# Altium schematic symbol library MCU_ST_STM32L0.SchLib: 245 symbols (part 5 of 5)
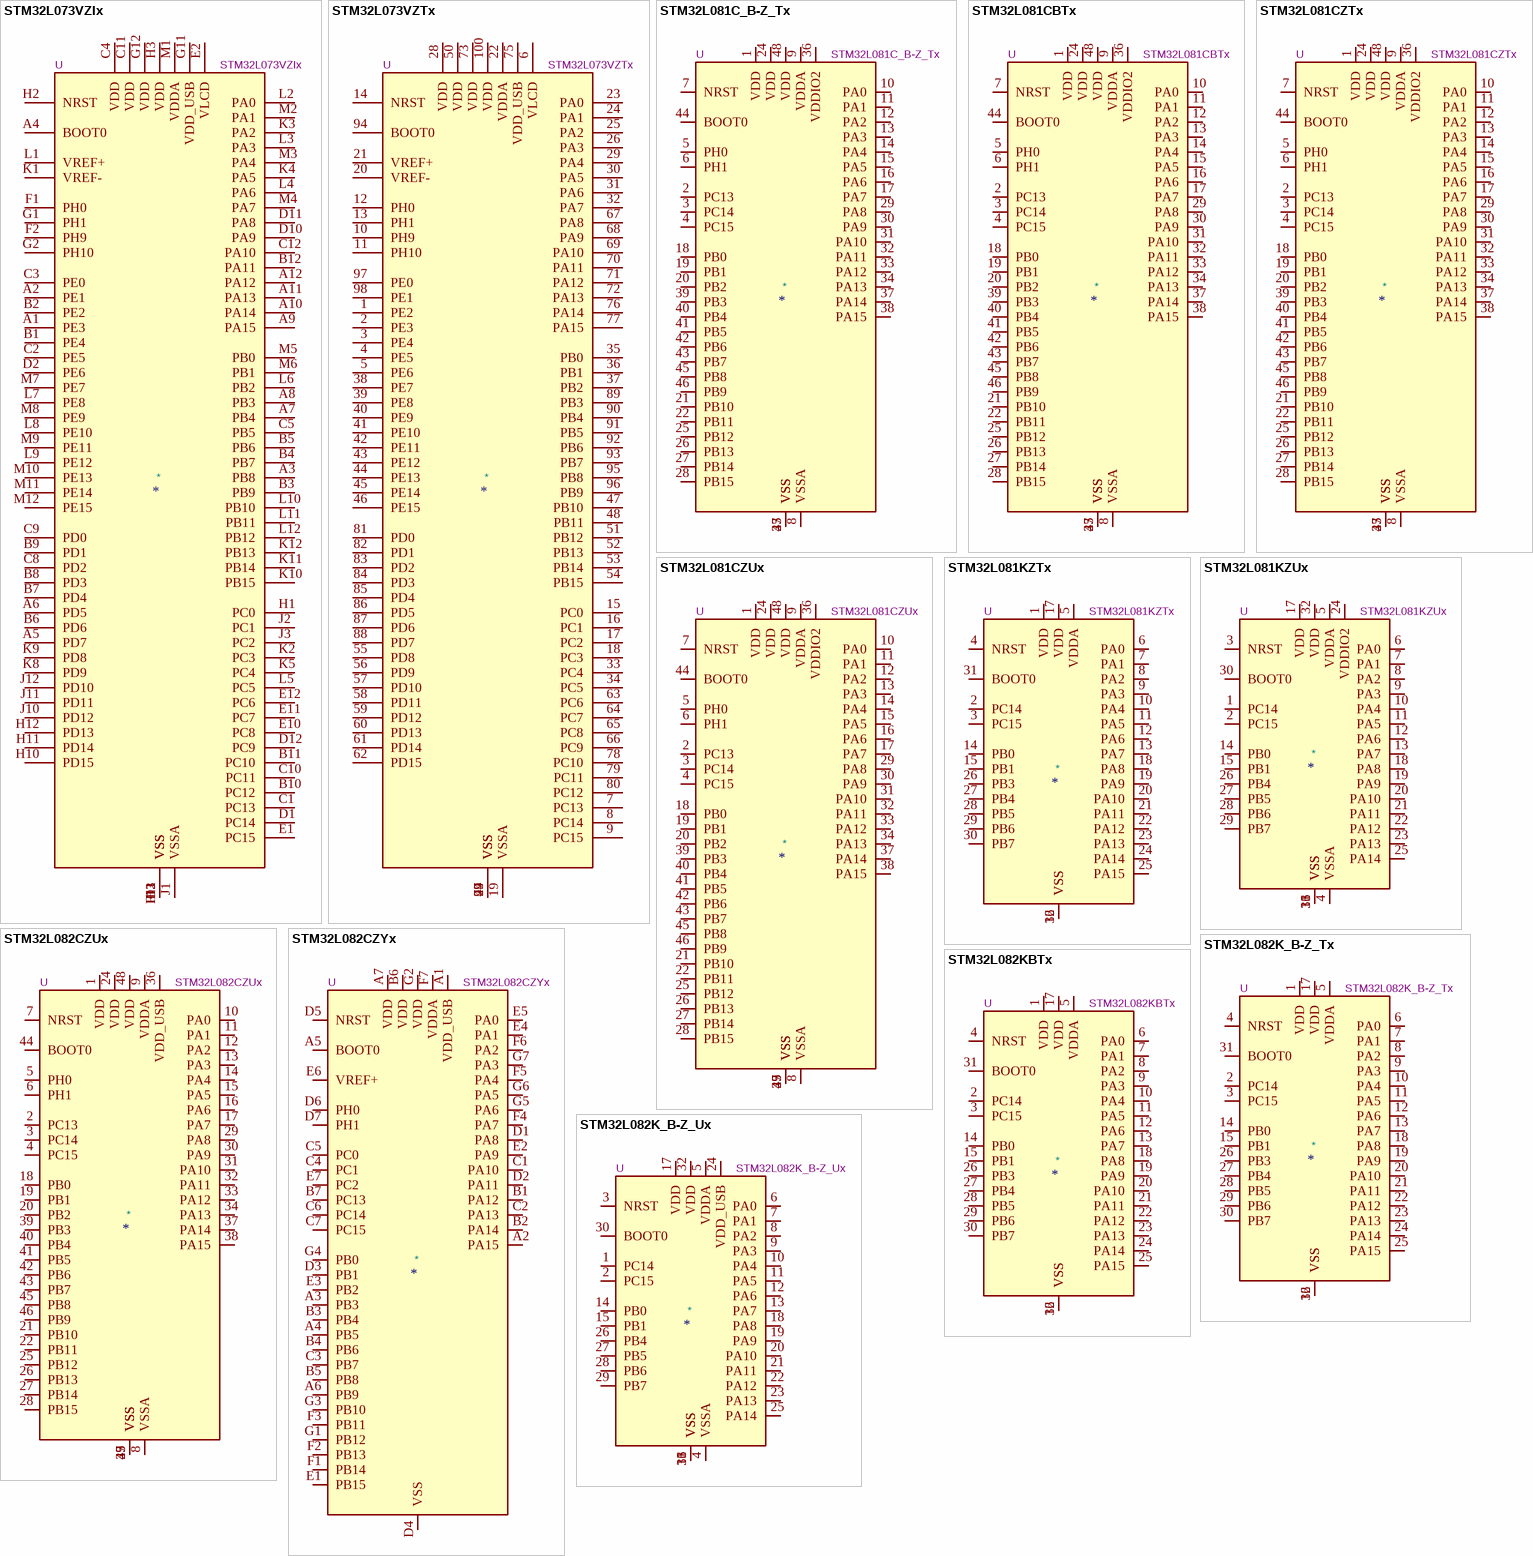
[diagram p26: symbols STM32L073VZIx to STM32L082KBTx]

## STM32L082CZYx
designator *  value STM32L082CZYx  Reference: U
STMicroelectronics Arm Cortex-M0+ MCU, 192KB flash, 20KB RAM, 32 MHz, 1.65-3.6V, 40 GPIO, WLCSP49; ki_keywords: Arm Cortex-M0+ STM32L0 STM32L0x2; ki_fp_filters: ST*WLCSP*Die447*; Footprint: Package_CSP:ST_WLCSP-49_Die447; Datasheet: https://www.st.com/resource/en/datasheet/stm32l082cz.pdf; Description_: STMicroelectronics Arm Cortex-M0+ MCU, 192KB flash, 20KB RAM, 32 MHz, 1.65-3.6V, 40 GPIO, WLCSP49
pins: A1 VDD_USB, A2 PA15, A3 PB3, A4 PB5, A5 BOOT0, A6 PB9, A7 VDD, B1 PA12, B2 PA14, B3 PB4, B4 PB6, B5 PB8, B6 VDD, B7 PC13, C1 PA10, C2 PA13, C3 PB7, C4 PC1, C5 PC0, C6 PC14, C7 PC15, D1 PA8, D2 PA11, D3 PB1, D4 VSS, D5 NRST, D6 PH0, D7 PH1, E1 PB15, E2 PA9, E3 PB2, E4 PA1, E5 PA0, E6 VREF+, E7 PC2, F1 PB14, F2 PB13, F3 PB11, F4 PA7, F5 PA4, F6 PA2, F7 VDDA, G1 PB12, G2 VDD, G3 PB10, G4 PB0, G5 PA6, G6 PA5, G7 PA3

## STM32L082K_B-Z_Tx
designator *  value STM32L082K_B-Z_Tx  Reference: U
STMicroelectronics Arm Cortex-M0+ MCU, 128-192KB flash, 20KB RAM, 32 MHz, 1.65-3.6V, 25 GPIO, LQFP32; ki_keywords: Arm Cortex-M0+ STM32L0 STM32L0x2; ki_fp_filters: LQFP*7x7mm*P0.8mm*; Footprint: Package_QFP:LQFP-32_7x7mm_P0.8mm; Datasheet: https://www.st.com/resource/en/datasheet/stm32l082kb.pdf; Description_: STMicroelectronics Arm Cortex-M0+ MCU, 128-192KB flash, 20KB RAM, 32 MHz, 1.65-3.6V, 25 GPIO, LQFP32
pins: 1 VDD, 2 PC14, 3 PC15, 4 NRST, 5 VDDA, 6 PA0, 7 PA1, 8 PA2, 9 PA3, 10 PA4, 11 PA5, 12 PA6, 13 PA7, 14 PB0, 15 PB1, 16 VSS, 17 VDD, 18 PA8, 19 PA9, 20 PA10, 21 PA11, 22 PA12, 23 PA13, 24 PA14, 25 PA15, 26 PB3, 27 PB4, 28 PB5, 29 PB6, 30 PB7, 31 BOOT0, 32 VSS

## STM32L082K_B-Z_Ux
designator *  value STM32L082K_B-Z_Ux  Reference: U
STMicroelectronics Arm Cortex-M0+ MCU, 128-192KB flash, 20KB RAM, 32 MHz, 1.65-3.6V, 23 GPIO, UFQFPN32; ki_keywords: Arm Cortex-M0+ STM32L0 STM32L0x2; ki_fp_filters: QFN*1EP*5x5mm*P0.5mm*; Footprint: Package_DFN_QFN:QFN-32-1EP_5x5mm_P0.5mm_EP3.45x3.45mm; Datasheet: https://www.st.com/resource/en/datasheet/stm32l082kb.pdf; Description_: STMicroelectronics Arm Cortex-M0+ MCU, 128-192KB flash, 20KB RAM, 32 MHz, 1.65-3.6V, 23 GPIO, UFQFPN32
pins: 1 PC14, 2 PC15, 3 NRST, 4 VSSA, 5 VDDA, 6 PA0, 7 PA1, 8 PA2, 9 PA3, 10 PA4, 11 PA5, 12 PA6, 13 PA7, 14 PB0, 15 PB1, 16 VSS, 17 VDD, 18 PA8, 19 PA9, 20 PA10, 21 PA11, 22 PA12, 23 PA13, 24 VDD_USB, 25 PA14, 26 PB4, 27 PB5, 28 PB6, 29 PB7, 30 BOOT0, 31 VSS, 32 VDD, 33 VSS

## STM32L082KBTx
designator *  value STM32L082KBTx  Reference: U
STMicroelectronics Arm Cortex-M0+ MCU, 128KB flash, 20KB RAM, 32 MHz, 1.65-3.6V, 25 GPIO, LQFP32; ki_keywords: Arm Cortex-M0+ STM32L0 STM32L0x2; ki_fp_filters: LQFP*7x7mm*P0.8mm*; Footprint: Package_QFP:LQFP-32_7x7mm_P0.8mm; Datasheet: https://www.st.com/resource/en/datasheet/stm32l082kb.pdf; Description_: STMicroelectronics Arm Cortex-M0+ MCU, 128KB flash, 20KB RAM, 32 MHz, 1.65-3.6V, 25 GPIO, LQFP32
pins: 1 VDD, 2 PC14, 3 PC15, 4 NRST, 5 VDDA, 6 PA0, 7 PA1, 8 PA2, 9 PA3, 10 PA4, 11 PA5, 12 PA6, 13 PA7, 14 PB0, 15 PB1, 16 VSS, 17 VDD, 18 PA8, 19 PA9, 20 PA10, 21 PA11, 22 PA12, 23 PA13, 24 PA14, 25 PA15, 26 PB3, 27 PB4, 28 PB5, 29 PB6, 30 PB7, 31 BOOT0, 32 VSS

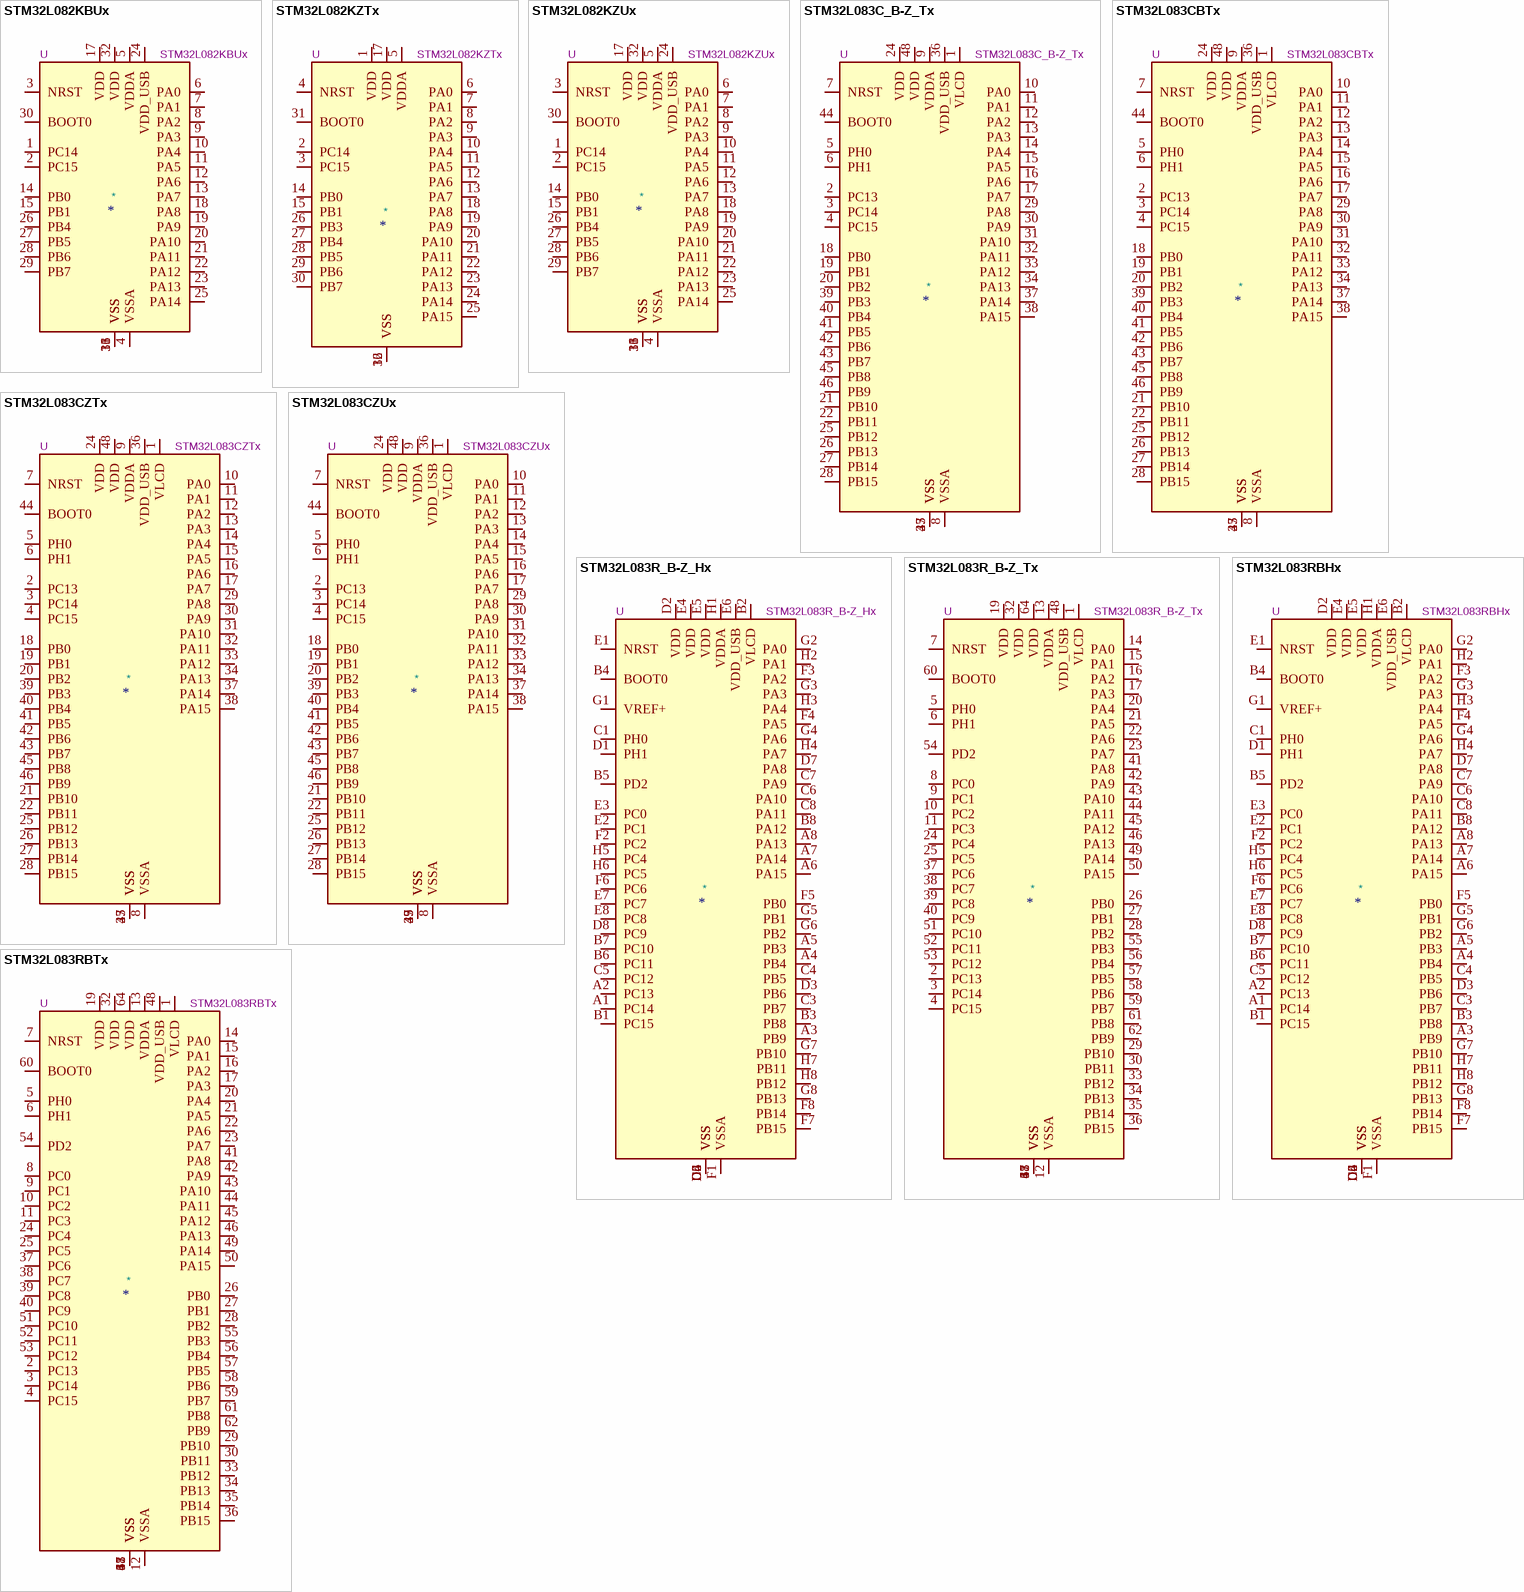
[diagram p19: symbols STM32L082KBUx to STM32L083RBTx]

## STM32L082KBUx
designator *  value STM32L082KBUx  Reference: U
STMicroelectronics Arm Cortex-M0+ MCU, 128KB flash, 20KB RAM, 32 MHz, 1.65-3.6V, 23 GPIO, UFQFPN32; ki_keywords: Arm Cortex-M0+ STM32L0 STM32L0x2; ki_fp_filters: QFN*1EP*5x5mm*P0.5mm*; Footprint: Package_DFN_QFN:QFN-32-1EP_5x5mm_P0.5mm_EP3.45x3.45mm; Datasheet: https://www.st.com/resource/en/datasheet/stm32l082kb.pdf; Description_: STMicroelectronics Arm Cortex-M0+ MCU, 128KB flash, 20KB RAM, 32 MHz, 1.65-3.6V, 23 GPIO, UFQFPN32
pins: 1 PC14, 2 PC15, 3 NRST, 4 VSSA, 5 VDDA, 6 PA0, 7 PA1, 8 PA2, 9 PA3, 10 PA4, 11 PA5, 12 PA6, 13 PA7, 14 PB0, 15 PB1, 16 VSS, 17 VDD, 18 PA8, 19 PA9, 20 PA10, 21 PA11, 22 PA12, 23 PA13, 24 VDD_USB, 25 PA14, 26 PB4, 27 PB5, 28 PB6, 29 PB7, 30 BOOT0, 31 VSS, 32 VDD, 33 VSS

## STM32L082KZTx
designator *  value STM32L082KZTx  Reference: U
STMicroelectronics Arm Cortex-M0+ MCU, 192KB flash, 20KB RAM, 32 MHz, 1.65-3.6V, 25 GPIO, LQFP32; ki_keywords: Arm Cortex-M0+ STM32L0 STM32L0x2; ki_fp_filters: LQFP*7x7mm*P0.8mm*; Footprint: Package_QFP:LQFP-32_7x7mm_P0.8mm; Datasheet: https://www.st.com/resource/en/datasheet/stm32l082kz.pdf; Description_: STMicroelectronics Arm Cortex-M0+ MCU, 192KB flash, 20KB RAM, 32 MHz, 1.65-3.6V, 25 GPIO, LQFP32
pins: 1 VDD, 2 PC14, 3 PC15, 4 NRST, 5 VDDA, 6 PA0, 7 PA1, 8 PA2, 9 PA3, 10 PA4, 11 PA5, 12 PA6, 13 PA7, 14 PB0, 15 PB1, 16 VSS, 17 VDD, 18 PA8, 19 PA9, 20 PA10, 21 PA11, 22 PA12, 23 PA13, 24 PA14, 25 PA15, 26 PB3, 27 PB4, 28 PB5, 29 PB6, 30 PB7, 31 BOOT0, 32 VSS

## STM32L082KZUx
designator *  value STM32L082KZUx  Reference: U
STMicroelectronics Arm Cortex-M0+ MCU, 192KB flash, 20KB RAM, 32 MHz, 1.65-3.6V, 23 GPIO, UFQFPN32; ki_keywords: Arm Cortex-M0+ STM32L0 STM32L0x2; ki_fp_filters: QFN*1EP*5x5mm*P0.5mm*; Footprint: Package_DFN_QFN:QFN-32-1EP_5x5mm_P0.5mm_EP3.45x3.45mm; Datasheet: https://www.st.com/resource/en/datasheet/stm32l082kz.pdf; Description_: STMicroelectronics Arm Cortex-M0+ MCU, 192KB flash, 20KB RAM, 32 MHz, 1.65-3.6V, 23 GPIO, UFQFPN32
pins: 1 PC14, 2 PC15, 3 NRST, 4 VSSA, 5 VDDA, 6 PA0, 7 PA1, 8 PA2, 9 PA3, 10 PA4, 11 PA5, 12 PA6, 13 PA7, 14 PB0, 15 PB1, 16 VSS, 17 VDD, 18 PA8, 19 PA9, 20 PA10, 21 PA11, 22 PA12, 23 PA13, 24 VDD_USB, 25 PA14, 26 PB4, 27 PB5, 28 PB6, 29 PB7, 30 BOOT0, 31 VSS, 32 VDD, 33 VSS

## STM32L083C_B-Z_Tx
designator *  value STM32L083C_B-Z_Tx  Reference: U
STMicroelectronics Arm Cortex-M0+ MCU, 128-192KB flash, 20KB RAM, 32 MHz, 1.65-3.6V, 37 GPIO, LQFP48; ki_keywords: Arm Cortex-M0+ STM32L0 STM32L0x3; ki_fp_filters: LQFP*7x7mm*P0.5mm*; Footprint: Package_QFP:LQFP-48_7x7mm_P0.5mm; Datasheet: https://www.st.com/resource/en/datasheet/stm32l083cb.pdf; Description_: STMicroelectronics Arm Cortex-M0+ MCU, 128-192KB flash, 20KB RAM, 32 MHz, 1.65-3.6V, 37 GPIO, LQFP48
pins: 1 VLCD, 2 PC13, 3 PC14, 4 PC15, 5 PH0, 6 PH1, 7 NRST, 8 VSSA, 9 VDDA, 10 PA0, 11 PA1, 12 PA2, 13 PA3, 14 PA4, 15 PA5, 16 PA6, 17 PA7, 18 PB0, 19 PB1, 20 PB2, 21 PB10, 22 PB11, 23 VSS, 24 VDD, 25 PB12, 26 PB13, 27 PB14, 28 PB15, 29 PA8, 30 PA9, 31 PA10, 32 PA11, 33 PA12, 34 PA13, 35 VSS, 36 VDD_USB, 37 PA14, 38 PA15, 39 PB3, 40 PB4, 41 PB5, 42 PB6, 43 PB7, 44 BOOT0, 45 PB8, 46 PB9, 47 VSS, 48 VDD

## STM32L083CBTx
designator *  value STM32L083CBTx  Reference: U
STMicroelectronics Arm Cortex-M0+ MCU, 128KB flash, 20KB RAM, 32 MHz, 1.65-3.6V, 37 GPIO, LQFP48; ki_keywords: Arm Cortex-M0+ STM32L0 STM32L0x3; ki_fp_filters: LQFP*7x7mm*P0.5mm*; Footprint: Package_QFP:LQFP-48_7x7mm_P0.5mm; Datasheet: https://www.st.com/resource/en/datasheet/stm32l083cb.pdf; Description_: STMicroelectronics Arm Cortex-M0+ MCU, 128KB flash, 20KB RAM, 32 MHz, 1.65-3.6V, 37 GPIO, LQFP48
pins: 1 VLCD, 2 PC13, 3 PC14, 4 PC15, 5 PH0, 6 PH1, 7 NRST, 8 VSSA, 9 VDDA, 10 PA0, 11 PA1, 12 PA2, 13 PA3, 14 PA4, 15 PA5, 16 PA6, 17 PA7, 18 PB0, 19 PB1, 20 PB2, 21 PB10, 22 PB11, 23 VSS, 24 VDD, 25 PB12, 26 PB13, 27 PB14, 28 PB15, 29 PA8, 30 PA9, 31 PA10, 32 PA11, 33 PA12, 34 PA13, 35 VSS, 36 VDD_USB, 37 PA14, 38 PA15, 39 PB3, 40 PB4, 41 PB5, 42 PB6, 43 PB7, 44 BOOT0, 45 PB8, 46 PB9, 47 VSS, 48 VDD

## STM32L083CZTx
designator *  value STM32L083CZTx  Reference: U
STMicroelectronics Arm Cortex-M0+ MCU, 192KB flash, 20KB RAM, 32 MHz, 1.65-3.6V, 37 GPIO, LQFP48; ki_keywords: Arm Cortex-M0+ STM32L0 STM32L0x3; ki_fp_filters: LQFP*7x7mm*P0.5mm*; Footprint: Package_QFP:LQFP-48_7x7mm_P0.5mm; Datasheet: https://www.st.com/resource/en/datasheet/stm32l083cz.pdf; Description_: STMicroelectronics Arm Cortex-M0+ MCU, 192KB flash, 20KB RAM, 32 MHz, 1.65-3.6V, 37 GPIO, LQFP48
pins: 1 VLCD, 2 PC13, 3 PC14, 4 PC15, 5 PH0, 6 PH1, 7 NRST, 8 VSSA, 9 VDDA, 10 PA0, 11 PA1, 12 PA2, 13 PA3, 14 PA4, 15 PA5, 16 PA6, 17 PA7, 18 PB0, 19 PB1, 20 PB2, 21 PB10, 22 PB11, 23 VSS, 24 VDD, 25 PB12, 26 PB13, 27 PB14, 28 PB15, 29 PA8, 30 PA9, 31 PA10, 32 PA11, 33 PA12, 34 PA13, 35 VSS, 36 VDD_USB, 37 PA14, 38 PA15, 39 PB3, 40 PB4, 41 PB5, 42 PB6, 43 PB7, 44 BOOT0, 45 PB8, 46 PB9, 47 VSS, 48 VDD

## STM32L083CZUx
designator *  value STM32L083CZUx  Reference: U
STMicroelectronics Arm Cortex-M0+ MCU, 192KB flash, 20KB RAM, 32 MHz, 1.65-3.6V, 37 GPIO, UFQFPN48; ki_keywords: Arm Cortex-M0+ STM32L0 STM32L0x3; ki_fp_filters: QFN*1EP*7x7mm*P0.5mm*; Footprint: Package_DFN_QFN:QFN-48-1EP_7x7mm_P0.5mm_EP5.6x5.6mm; Datasheet: https://www.st.com/resource/en/datasheet/stm32l083cz.pdf; Description_: STMicroelectronics Arm Cortex-M0+ MCU, 192KB flash, 20KB RAM, 32 MHz, 1.65-3.6V, 37 GPIO, UFQFPN48
pins: 1 VLCD, 2 PC13, 3 PC14, 4 PC15, 5 PH0, 6 PH1, 7 NRST, 8 VSSA, 9 VDDA, 10 PA0, 11 PA1, 12 PA2, 13 PA3, 14 PA4, 15 PA5, 16 PA6, 17 PA7, 18 PB0, 19 PB1, 20 PB2, 21 PB10, 22 PB11, 23 VSS, 24 VDD, 25 PB12, 26 PB13, 27 PB14, 28 PB15, 29 PA8, 30 PA9, 31 PA10, 32 PA11, 33 PA12, 34 PA13, 35 VSS, 36 VDD_USB, 37 PA14, 38 PA15, 39 PB3, 40 PB4, 41 PB5, 42 PB6, 43 PB7, 44 BOOT0, 45 PB8, 46 PB9, 47 VSS, 48 VDD, 49 VSS

## STM32L083R_B-Z_Hx
designator *  value STM32L083R_B-Z_Hx  Reference: U
STMicroelectronics Arm Cortex-M0+ MCU, 128-192KB flash, 20KB RAM, 32 MHz, 1.65-3.6V, 50 GPIO, TFBGA64; ki_keywords: Arm Cortex-M0+ STM32L0 STM32L0x3; ki_fp_filters: TFBGA*5x5mm*Layout8x8*P0.5mm*; Footprint: Package_BGA:TFBGA-64_5x5mm_Layout8x8_P0.5mm; Datasheet: https://www.st.com/resource/en/datasheet/stm32l083rb.pdf; Description_: STMicroelectronics Arm Cortex-M0+ MCU, 128-192KB flash, 20KB RAM, 32 MHz, 1.65-3.6V, 50 GPIO, TFBGA64
pins: A1 PC14, A2 PC13, A3 PB9, A4 PB4, A5 PB3, A6 PA15, A7 PA14, A8 PA13, B1 PC15, B2 VLCD, B3 PB8, B4 BOOT0, B5 PD2, B6 PC11, B7 PC10, B8 PA12, C1 PH0, C2 VSS, C3 PB7, C4 PB5, C5 PC12, C6 PA10, C7 PA9, C8 PA11, D1 PH1, D2 VDD, D3 PB6, D4 VSS, D5 VSS, D6 VSS, D7 PA8, D8 PC9, E1 NRST, E2 PC1, E3 PC0, E4 VDD, E5 VDD, E6 VDD_USB, E7 PC7, E8 PC8, F1 VSSA, F2 PC2, F3 PA2, F4 PA5, F5 PB0, F6 PC6, F7 PB15, F8 PB14, G1 VREF+, G2 PA0, G3 PA3, G4 PA6, G5 PB1, G6 PB2, G7 PB10, G8 PB13, H1 VDDA, H2 PA1, H3 PA4, H4 PA7, H5 PC4, H6 PC5, H7 PB11, H8 PB12

## STM32L083R_B-Z_Tx
designator *  value STM32L083R_B-Z_Tx  Reference: U
STMicroelectronics Arm Cortex-M0+ MCU, 128-192KB flash, 20KB RAM, 32 MHz, 1.65-3.6V, 51 GPIO, LQFP64; ki_keywords: Arm Cortex-M0+ STM32L0 STM32L0x3; ki_fp_filters: LQFP*10x10mm*P0.5mm*; Footprint: Package_QFP:LQFP-64_10x10mm_P0.5mm; Datasheet: https://www.st.com/resource/en/datasheet/stm32l083rb.pdf; Description_: STMicroelectronics Arm Cortex-M0+ MCU, 128-192KB flash, 20KB RAM, 32 MHz, 1.65-3.6V, 51 GPIO, LQFP64
pins: 1 VLCD, 2 PC13, 3 PC14, 4 PC15, 5 PH0, 6 PH1, 7 NRST, 8 PC0, 9 PC1, 10 PC2, 11 PC3, 12 VSSA, 13 VDDA, 14 PA0, 15 PA1, 16 PA2, 17 PA3, 18 VSS, 19 VDD, 20 PA4, 21 PA5, 22 PA6, 23 PA7, 24 PC4, 25 PC5, 26 PB0, 27 PB1, 28 PB2, 29 PB10, 30 PB11, 31 VSS, 32 VDD, 33 PB12, 34 PB13, 35 PB14, 36 PB15, 37 PC6, 38 PC7, 39 PC8, 40 PC9, 41 PA8, 42 PA9, 43 PA10, 44 PA11, 45 PA12, 46 PA13, 47 VSS, 48 VDD_USB, 49 PA14, 50 PA15, 51 PC10, 52 PC11, 53 PC12, 54 PD2, 55 PB3, 56 PB4, 57 PB5, 58 PB6, 59 PB7, 60 BOOT0, 61 PB8, 62 PB9, 63 VSS, 64 VDD

## STM32L083RBHx
designator *  value STM32L083RBHx  Reference: U
STMicroelectronics Arm Cortex-M0+ MCU, 128KB flash, 20KB RAM, 32 MHz, 1.65-3.6V, 50 GPIO, TFBGA64; ki_keywords: Arm Cortex-M0+ STM32L0 STM32L0x3; ki_fp_filters: TFBGA*5x5mm*Layout8x8*P0.5mm*; Footprint: Package_BGA:TFBGA-64_5x5mm_Layout8x8_P0.5mm; Datasheet: https://www.st.com/resource/en/datasheet/stm32l083rb.pdf; Description_: STMicroelectronics Arm Cortex-M0+ MCU, 128KB flash, 20KB RAM, 32 MHz, 1.65-3.6V, 50 GPIO, TFBGA64
pins: A1 PC14, A2 PC13, A3 PB9, A4 PB4, A5 PB3, A6 PA15, A7 PA14, A8 PA13, B1 PC15, B2 VLCD, B3 PB8, B4 BOOT0, B5 PD2, B6 PC11, B7 PC10, B8 PA12, C1 PH0, C2 VSS, C3 PB7, C4 PB5, C5 PC12, C6 PA10, C7 PA9, C8 PA11, D1 PH1, D2 VDD, D3 PB6, D4 VSS, D5 VSS, D6 VSS, D7 PA8, D8 PC9, E1 NRST, E2 PC1, E3 PC0, E4 VDD, E5 VDD, E6 VDD_USB, E7 PC7, E8 PC8, F1 VSSA, F2 PC2, F3 PA2, F4 PA5, F5 PB0, F6 PC6, F7 PB15, F8 PB14, G1 VREF+, G2 PA0, G3 PA3, G4 PA6, G5 PB1, G6 PB2, G7 PB10, G8 PB13, H1 VDDA, H2 PA1, H3 PA4, H4 PA7, H5 PC4, H6 PC5, H7 PB11, H8 PB12

## STM32L083RBTx
designator *  value STM32L083RBTx  Reference: U
STMicroelectronics Arm Cortex-M0+ MCU, 128KB flash, 20KB RAM, 32 MHz, 1.65-3.6V, 51 GPIO, LQFP64; ki_keywords: Arm Cortex-M0+ STM32L0 STM32L0x3; ki_fp_filters: LQFP*10x10mm*P0.5mm*; Footprint: Package_QFP:LQFP-64_10x10mm_P0.5mm; Datasheet: https://www.st.com/resource/en/datasheet/stm32l083rb.pdf; Description_: STMicroelectronics Arm Cortex-M0+ MCU, 128KB flash, 20KB RAM, 32 MHz, 1.65-3.6V, 51 GPIO, LQFP64
pins: 1 VLCD, 2 PC13, 3 PC14, 4 PC15, 5 PH0, 6 PH1, 7 NRST, 8 PC0, 9 PC1, 10 PC2, 11 PC3, 12 VSSA, 13 VDDA, 14 PA0, 15 PA1, 16 PA2, 17 PA3, 18 VSS, 19 VDD, 20 PA4, 21 PA5, 22 PA6, 23 PA7, 24 PC4, 25 PC5, 26 PB0, 27 PB1, 28 PB2, 29 PB10, 30 PB11, 31 VSS, 32 VDD, 33 PB12, 34 PB13, 35 PB14, 36 PB15, 37 PC6, 38 PC7, 39 PC8, 40 PC9, 41 PA8, 42 PA9, 43 PA10, 44 PA11, 45 PA12, 46 PA13, 47 VSS, 48 VDD_USB, 49 PA14, 50 PA15, 51 PC10, 52 PC11, 53 PC12, 54 PD2, 55 PB3, 56 PB4, 57 PB5, 58 PB6, 59 PB7, 60 BOOT0, 61 PB8, 62 PB9, 63 VSS, 64 VDD

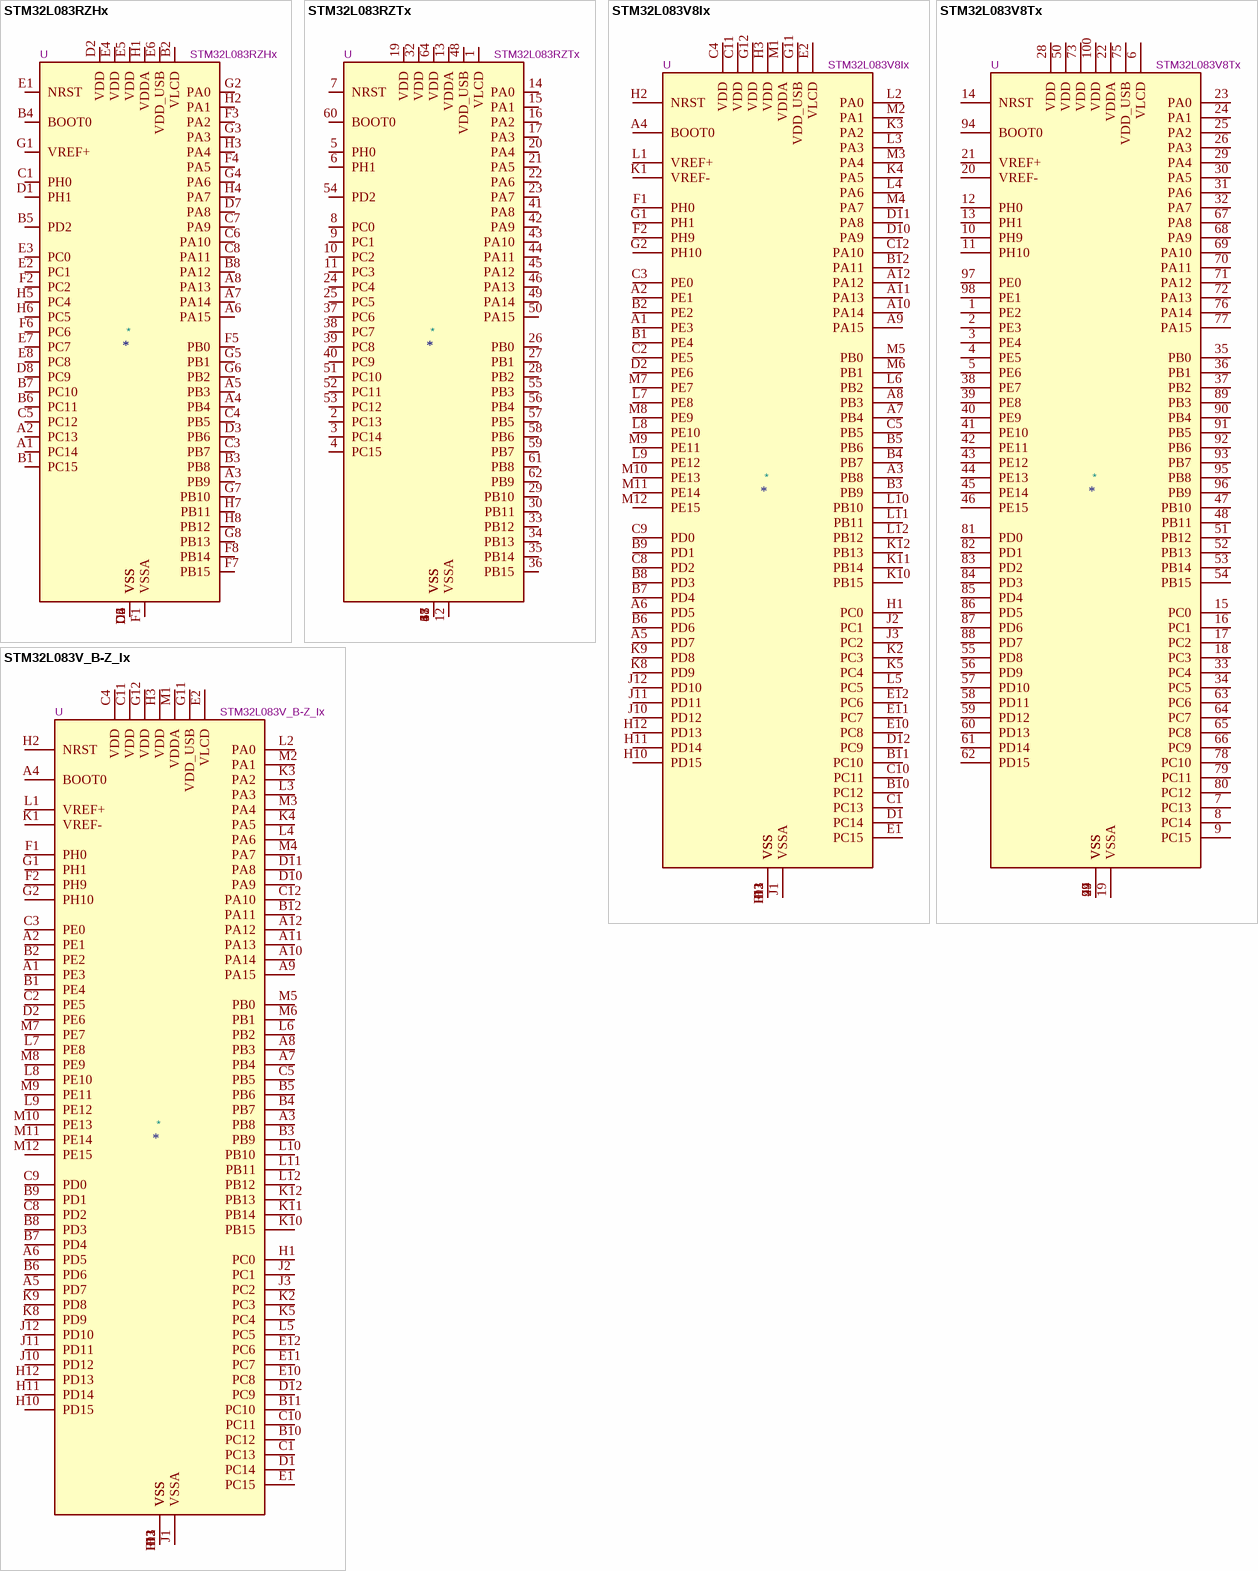
[diagram p20: symbols STM32L083RZHx to STM32L083V_B-Z_Ix]

## STM32L083RZHx
designator *  value STM32L083RZHx  Reference: U
STMicroelectronics Arm Cortex-M0+ MCU, 192KB flash, 20KB RAM, 32 MHz, 1.65-3.6V, 50 GPIO, TFBGA64; ki_keywords: Arm Cortex-M0+ STM32L0 STM32L0x3; ki_fp_filters: TFBGA*5x5mm*Layout8x8*P0.5mm*; Footprint: Package_BGA:TFBGA-64_5x5mm_Layout8x8_P0.5mm; Datasheet: https://www.st.com/resource/en/datasheet/stm32l083rz.pdf; Description_: STMicroelectronics Arm Cortex-M0+ MCU, 192KB flash, 20KB RAM, 32 MHz, 1.65-3.6V, 50 GPIO, TFBGA64
pins: A1 PC14, A2 PC13, A3 PB9, A4 PB4, A5 PB3, A6 PA15, A7 PA14, A8 PA13, B1 PC15, B2 VLCD, B3 PB8, B4 BOOT0, B5 PD2, B6 PC11, B7 PC10, B8 PA12, C1 PH0, C2 VSS, C3 PB7, C4 PB5, C5 PC12, C6 PA10, C7 PA9, C8 PA11, D1 PH1, D2 VDD, D3 PB6, D4 VSS, D5 VSS, D6 VSS, D7 PA8, D8 PC9, E1 NRST, E2 PC1, E3 PC0, E4 VDD, E5 VDD, E6 VDD_USB, E7 PC7, E8 PC8, F1 VSSA, F2 PC2, F3 PA2, F4 PA5, F5 PB0, F6 PC6, F7 PB15, F8 PB14, G1 VREF+, G2 PA0, G3 PA3, G4 PA6, G5 PB1, G6 PB2, G7 PB10, G8 PB13, H1 VDDA, H2 PA1, H3 PA4, H4 PA7, H5 PC4, H6 PC5, H7 PB11, H8 PB12

## STM32L083RZTx
designator *  value STM32L083RZTx  Reference: U
STMicroelectronics Arm Cortex-M0+ MCU, 192KB flash, 20KB RAM, 32 MHz, 1.65-3.6V, 51 GPIO, LQFP64; ki_keywords: Arm Cortex-M0+ STM32L0 STM32L0x3; ki_fp_filters: LQFP*10x10mm*P0.5mm*; Footprint: Package_QFP:LQFP-64_10x10mm_P0.5mm; Datasheet: https://www.st.com/resource/en/datasheet/stm32l083rz.pdf; Description_: STMicroelectronics Arm Cortex-M0+ MCU, 192KB flash, 20KB RAM, 32 MHz, 1.65-3.6V, 51 GPIO, LQFP64
pins: 1 VLCD, 2 PC13, 3 PC14, 4 PC15, 5 PH0, 6 PH1, 7 NRST, 8 PC0, 9 PC1, 10 PC2, 11 PC3, 12 VSSA, 13 VDDA, 14 PA0, 15 PA1, 16 PA2, 17 PA3, 18 VSS, 19 VDD, 20 PA4, 21 PA5, 22 PA6, 23 PA7, 24 PC4, 25 PC5, 26 PB0, 27 PB1, 28 PB2, 29 PB10, 30 PB11, 31 VSS, 32 VDD, 33 PB12, 34 PB13, 35 PB14, 36 PB15, 37 PC6, 38 PC7, 39 PC8, 40 PC9, 41 PA8, 42 PA9, 43 PA10, 44 PA11, 45 PA12, 46 PA13, 47 VSS, 48 VDD_USB, 49 PA14, 50 PA15, 51 PC10, 52 PC11, 53 PC12, 54 PD2, 55 PB3, 56 PB4, 57 PB5, 58 PB6, 59 PB7, 60 BOOT0, 61 PB8, 62 PB9, 63 VSS, 64 VDD

## STM32L083V8Ix
designator *  value STM32L083V8Ix  Reference: U
STMicroelectronics Arm Cortex-M0+ MCU, 64KB flash, 20KB RAM, 84 GPIO, UFBGA100; ki_keywords: Arm Cortex-M0+ STM32L0 STM32L0x3; ki_fp_filters: UFBGA*7x7mm*Layout12x12*P0.5mm*; Footprint: Package_BGA:UFBGA-100_7x7mm_Layout12x12_P0.5mm; Datasheet: https://www.st.com/resource/en/datasheet/stm32l083v8.pdf; Description_: STMicroelectronics Arm Cortex-M0+ MCU, 64KB flash, 20KB RAM, 84 GPIO, UFBGA100
pins: A1 PE3, A2 PE1, A3 PB8, A4 BOOT0, A5 PD7, A6 PD5, A7 PB4, A8 PB3, A9 PA15, A10 PA14, A11 PA13, A12 PA12, B1 PE4, B2 PE2, B3 PB9, B4 PB7, B5 PB6, B6 PD6, B7 PD4, B8 PD3, B9 PD1, B10 PC12, B11 PC10, B12 PA11, C1 PC13, C2 PE5, C3 PE0, C4 VDD, C5 PB5, C8 PD2, C9 PD0, C10 PC11, C11 VDD, C12 PA10, D1 PC14, D2 PE6, D3 VSS, D10 PA9, D11 PA8, D12 PC9, E1 PC15, E2 VLCD, E3 VSS, E10 PC8, E11 PC7, E12 PC6, F1 PH0, F2 PH9, F11 VSS, F12 VSS, G1 PH1, G2 PH10, G11 VDD_USB, G12 VDD, H1 PC0, H2 NRST, H3 VDD, H10 PD15, H11 PD14, H12 PD13, J1 VSSA, J2 PC1, J3 PC2, J10 PD12, J11 PD11, J12 PD10, K1 VREF-, K2 PC3, K3 PA2, K4 PA5, K5 PC4, K8 PD9, K9 PD8, K10 PB15, K11 PB14, K12 PB13, L1 VREF+, L2 PA0, L3 PA3, L4 PA6, L5 PC5, L6 PB2, L7 PE8, L8 PE10, L9 PE12, L10 PB10, L11 PB11, L12 PB12, M1 VDDA, M2 PA1, M3 PA4, M4 PA7, M5 PB0, M6 PB1, M7 PE7, M8 PE9, M9 PE11, M10 PE13, M11 PE14, M12 PE15

## STM32L083V8Tx
designator *  value STM32L083V8Tx  Reference: U
STMicroelectronics Arm Cortex-M0+ MCU, 64KB flash, 20KB RAM, 32 MHz, 1.65-3.6V, 84 GPIO, LQFP100; ki_keywords: Arm Cortex-M0+ STM32L0 STM32L0x3; ki_fp_filters: LQFP*14x14mm*P0.5mm*; Footprint: Package_QFP:LQFP-100_14x14mm_P0.5mm; Datasheet: https://www.st.com/resource/en/datasheet/stm32l083v8.pdf; Description_: STMicroelectronics Arm Cortex-M0+ MCU, 64KB flash, 20KB RAM, 32 MHz, 1.65-3.6V, 84 GPIO, LQFP100
pins: 1 PE2, 2 PE3, 3 PE4, 4 PE5, 5 PE6, 6 VLCD, 7 PC13, 8 PC14, 9 PC15, 10 PH9, 11 PH10, 12 PH0, 13 PH1, 14 NRST, 15 PC0, 16 PC1, 17 PC2, 18 PC3, 19 VSSA, 20 VREF-, 21 VREF+, 22 VDDA, 23 PA0, 24 PA1, 25 PA2, 26 PA3, 27 VSS, 28 VDD, 29 PA4, 30 PA5, 31 PA6, 32 PA7, 33 PC4, 34 PC5, 35 PB0, 36 PB1, 37 PB2, 38 PE7, 39 PE8, 40 PE9, 41 PE10, 42 PE11, 43 PE12, 44 PE13, 45 PE14, 46 PE15, 47 PB10, 48 PB11, 49 VSS, 50 VDD, 51 PB12, 52 PB13, 53 PB14, 54 PB15, 55 PD8, 56 PD9, 57 PD10, 58 PD11, 59 PD12, 60 PD13, 61 PD14, 62 PD15, 63 PC6, 64 PC7, 65 PC8, 66 PC9, 67 PA8, 68 PA9, 69 PA10, 70 PA11, 71 PA12, 72 PA13, 73 VDD, 74 VSS, 75 VDD_USB, 76 PA14, 77 PA15, 78 PC10, 79 PC11, 80 PC12, 81 PD0, 82 PD1, 83 PD2, 84 PD3, 85 PD4, 86 PD5, 87 PD6, 88 PD7, 89 PB3, 90 PB4, 91 PB5, 92 PB6, 93 PB7, 94 BOOT0, 95 PB8, 96 PB9, 97 PE0, 98 PE1, 99 VSS, 100 VDD

## STM32L083V_B-Z_Ix
designator *  value STM32L083V_B-Z_Ix  Reference: U
STMicroelectronics Arm Cortex-M0+ MCU, 128-192KB flash, 20KB RAM, 32 MHz, 1.65-3.6V, 84 GPIO, UFBGA100; ki_keywords: Arm Cortex-M0+ STM32L0 STM32L0x3; ki_fp_filters: UFBGA*7x7mm*Layout12x12*P0.5mm*; Footprint: Package_BGA:UFBGA-100_7x7mm_Layout12x12_P0.5mm; Datasheet: https://www.st.com/resource/en/datasheet/stm32l083vb.pdf; Description_: STMicroelectronics Arm Cortex-M0+ MCU, 128-192KB flash, 20KB RAM, 32 MHz, 1.65-3.6V, 84 GPIO, UFBGA100
pins: A1 PE3, A2 PE1, A3 PB8, A4 BOOT0, A5 PD7, A6 PD5, A7 PB4, A8 PB3, A9 PA15, A10 PA14, A11 PA13, A12 PA12, B1 PE4, B2 PE2, B3 PB9, B4 PB7, B5 PB6, B6 PD6, B7 PD4, B8 PD3, B9 PD1, B10 PC12, B11 PC10, B12 PA11, C1 PC13, C2 PE5, C3 PE0, C4 VDD, C5 PB5, C8 PD2, C9 PD0, C10 PC11, C11 VDD, C12 PA10, D1 PC14, D2 PE6, D3 VSS, D10 PA9, D11 PA8, D12 PC9, E1 PC15, E2 VLCD, E3 VSS, E10 PC8, E11 PC7, E12 PC6, F1 PH0, F2 PH9, F11 VSS, F12 VSS, G1 PH1, G2 PH10, G11 VDD_USB, G12 VDD, H1 PC0, H2 NRST, H3 VDD, H10 PD15, H11 PD14, H12 PD13, J1 VSSA, J2 PC1, J3 PC2, J10 PD12, J11 PD11, J12 PD10, K1 VREF-, K2 PC3, K3 PA2, K4 PA5, K5 PC4, K8 PD9, K9 PD8, K10 PB15, K11 PB14, K12 PB13, L1 VREF+, L2 PA0, L3 PA3, L4 PA6, L5 PC5, L6 PB2, L7 PE8, L8 PE10, L9 PE12, L10 PB10, L11 PB11, L12 PB12, M1 VDDA, M2 PA1, M3 PA4, M4 PA7, M5 PB0, M6 PB1, M7 PE7, M8 PE9, M9 PE11, M10 PE13, M11 PE14, M12 PE15

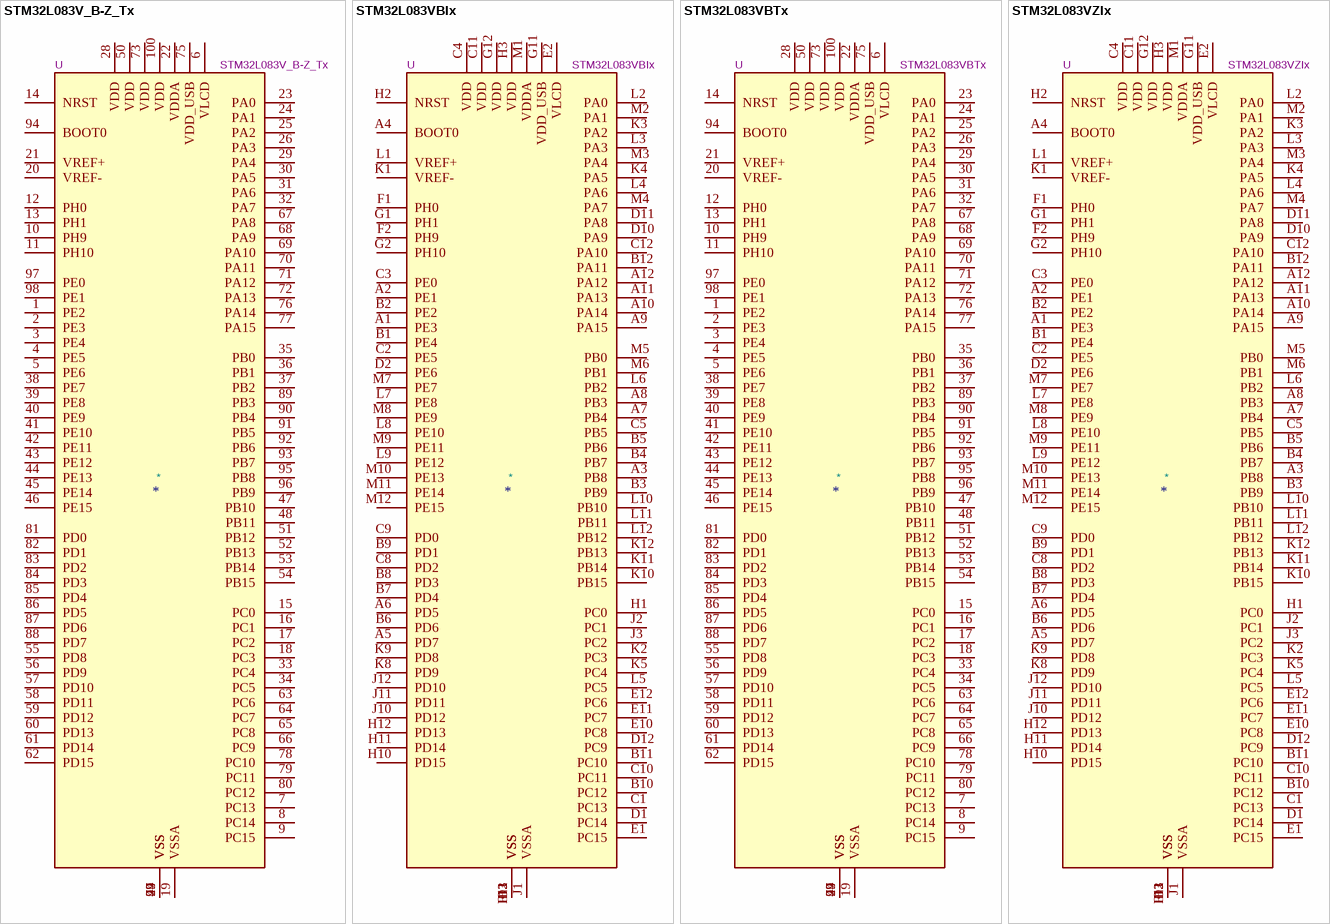
[diagram p21: symbols STM32L083V_B-Z_Tx to STM32L083VZIx]

## STM32L083V_B-Z_Tx
designator *  value STM32L083V_B-Z_Tx  Reference: U
STMicroelectronics Arm Cortex-M0+ MCU, 128-192KB flash, 20KB RAM, 32 MHz, 1.65-3.6V, 84 GPIO, LQFP100; ki_keywords: Arm Cortex-M0+ STM32L0 STM32L0x3; ki_fp_filters: LQFP*14x14mm*P0.5mm*; Footprint: Package_QFP:LQFP-100_14x14mm_P0.5mm; Datasheet: https://www.st.com/resource/en/datasheet/stm32l083vb.pdf; Description_: STMicroelectronics Arm Cortex-M0+ MCU, 128-192KB flash, 20KB RAM, 32 MHz, 1.65-3.6V, 84 GPIO, LQFP100
pins: 1 PE2, 2 PE3, 3 PE4, 4 PE5, 5 PE6, 6 VLCD, 7 PC13, 8 PC14, 9 PC15, 10 PH9, 11 PH10, 12 PH0, 13 PH1, 14 NRST, 15 PC0, 16 PC1, 17 PC2, 18 PC3, 19 VSSA, 20 VREF-, 21 VREF+, 22 VDDA, 23 PA0, 24 PA1, 25 PA2, 26 PA3, 27 VSS, 28 VDD, 29 PA4, 30 PA5, 31 PA6, 32 PA7, 33 PC4, 34 PC5, 35 PB0, 36 PB1, 37 PB2, 38 PE7, 39 PE8, 40 PE9, 41 PE10, 42 PE11, 43 PE12, 44 PE13, 45 PE14, 46 PE15, 47 PB10, 48 PB11, 49 VSS, 50 VDD, 51 PB12, 52 PB13, 53 PB14, 54 PB15, 55 PD8, 56 PD9, 57 PD10, 58 PD11, 59 PD12, 60 PD13, 61 PD14, 62 PD15, 63 PC6, 64 PC7, 65 PC8, 66 PC9, 67 PA8, 68 PA9, 69 PA10, 70 PA11, 71 PA12, 72 PA13, 73 VDD, 74 VSS, 75 VDD_USB, 76 PA14, 77 PA15, 78 PC10, 79 PC11, 80 PC12, 81 PD0, 82 PD1, 83 PD2, 84 PD3, 85 PD4, 86 PD5, 87 PD6, 88 PD7, 89 PB3, 90 PB4, 91 PB5, 92 PB6, 93 PB7, 94 BOOT0, 95 PB8, 96 PB9, 97 PE0, 98 PE1, 99 VSS, 100 VDD

## STM32L083VBIx
designator *  value STM32L083VBIx  Reference: U
STMicroelectronics Arm Cortex-M0+ MCU, 128KB flash, 20KB RAM, 32 MHz, 1.65-3.6V, 84 GPIO, UFBGA100; ki_keywords: Arm Cortex-M0+ STM32L0 STM32L0x3; ki_fp_filters: UFBGA*7x7mm*Layout12x12*P0.5mm*; Footprint: Package_BGA:UFBGA-100_7x7mm_Layout12x12_P0.5mm; Datasheet: https://www.st.com/resource/en/datasheet/stm32l083vb.pdf; Description_: STMicroelectronics Arm Cortex-M0+ MCU, 128KB flash, 20KB RAM, 32 MHz, 1.65-3.6V, 84 GPIO, UFBGA100
pins: A1 PE3, A2 PE1, A3 PB8, A4 BOOT0, A5 PD7, A6 PD5, A7 PB4, A8 PB3, A9 PA15, A10 PA14, A11 PA13, A12 PA12, B1 PE4, B2 PE2, B3 PB9, B4 PB7, B5 PB6, B6 PD6, B7 PD4, B8 PD3, B9 PD1, B10 PC12, B11 PC10, B12 PA11, C1 PC13, C2 PE5, C3 PE0, C4 VDD, C5 PB5, C8 PD2, C9 PD0, C10 PC11, C11 VDD, C12 PA10, D1 PC14, D2 PE6, D3 VSS, D10 PA9, D11 PA8, D12 PC9, E1 PC15, E2 VLCD, E3 VSS, E10 PC8, E11 PC7, E12 PC6, F1 PH0, F2 PH9, F11 VSS, F12 VSS, G1 PH1, G2 PH10, G11 VDD_USB, G12 VDD, H1 PC0, H2 NRST, H3 VDD, H10 PD15, H11 PD14, H12 PD13, J1 VSSA, J2 PC1, J3 PC2, J10 PD12, J11 PD11, J12 PD10, K1 VREF-, K2 PC3, K3 PA2, K4 PA5, K5 PC4, K8 PD9, K9 PD8, K10 PB15, K11 PB14, K12 PB13, L1 VREF+, L2 PA0, L3 PA3, L4 PA6, L5 PC5, L6 PB2, L7 PE8, L8 PE10, L9 PE12, L10 PB10, L11 PB11, L12 PB12, M1 VDDA, M2 PA1, M3 PA4, M4 PA7, M5 PB0, M6 PB1, M7 PE7, M8 PE9, M9 PE11, M10 PE13, M11 PE14, M12 PE15

## STM32L083VBTx
designator *  value STM32L083VBTx  Reference: U
STMicroelectronics Arm Cortex-M0+ MCU, 128KB flash, 20KB RAM, 32 MHz, 1.65-3.6V, 84 GPIO, LQFP100; ki_keywords: Arm Cortex-M0+ STM32L0 STM32L0x3; ki_fp_filters: LQFP*14x14mm*P0.5mm*; Footprint: Package_QFP:LQFP-100_14x14mm_P0.5mm; Datasheet: https://www.st.com/resource/en/datasheet/stm32l083vb.pdf; Description_: STMicroelectronics Arm Cortex-M0+ MCU, 128KB flash, 20KB RAM, 32 MHz, 1.65-3.6V, 84 GPIO, LQFP100
pins: 1 PE2, 2 PE3, 3 PE4, 4 PE5, 5 PE6, 6 VLCD, 7 PC13, 8 PC14, 9 PC15, 10 PH9, 11 PH10, 12 PH0, 13 PH1, 14 NRST, 15 PC0, 16 PC1, 17 PC2, 18 PC3, 19 VSSA, 20 VREF-, 21 VREF+, 22 VDDA, 23 PA0, 24 PA1, 25 PA2, 26 PA3, 27 VSS, 28 VDD, 29 PA4, 30 PA5, 31 PA6, 32 PA7, 33 PC4, 34 PC5, 35 PB0, 36 PB1, 37 PB2, 38 PE7, 39 PE8, 40 PE9, 41 PE10, 42 PE11, 43 PE12, 44 PE13, 45 PE14, 46 PE15, 47 PB10, 48 PB11, 49 VSS, 50 VDD, 51 PB12, 52 PB13, 53 PB14, 54 PB15, 55 PD8, 56 PD9, 57 PD10, 58 PD11, 59 PD12, 60 PD13, 61 PD14, 62 PD15, 63 PC6, 64 PC7, 65 PC8, 66 PC9, 67 PA8, 68 PA9, 69 PA10, 70 PA11, 71 PA12, 72 PA13, 73 VDD, 74 VSS, 75 VDD_USB, 76 PA14, 77 PA15, 78 PC10, 79 PC11, 80 PC12, 81 PD0, 82 PD1, 83 PD2, 84 PD3, 85 PD4, 86 PD5, 87 PD6, 88 PD7, 89 PB3, 90 PB4, 91 PB5, 92 PB6, 93 PB7, 94 BOOT0, 95 PB8, 96 PB9, 97 PE0, 98 PE1, 99 VSS, 100 VDD

## STM32L083VZIx
designator *  value STM32L083VZIx  Reference: U
STMicroelectronics Arm Cortex-M0+ MCU, 192KB flash, 20KB RAM, 32 MHz, 1.65-3.6V, 84 GPIO, UFBGA100; ki_keywords: Arm Cortex-M0+ STM32L0 STM32L0x3; ki_fp_filters: UFBGA*7x7mm*Layout12x12*P0.5mm*; Footprint: Package_BGA:UFBGA-100_7x7mm_Layout12x12_P0.5mm; Datasheet: https://www.st.com/resource/en/datasheet/stm32l083vz.pdf; Description_: STMicroelectronics Arm Cortex-M0+ MCU, 192KB flash, 20KB RAM, 32 MHz, 1.65-3.6V, 84 GPIO, UFBGA100
pins: A1 PE3, A2 PE1, A3 PB8, A4 BOOT0, A5 PD7, A6 PD5, A7 PB4, A8 PB3, A9 PA15, A10 PA14, A11 PA13, A12 PA12, B1 PE4, B2 PE2, B3 PB9, B4 PB7, B5 PB6, B6 PD6, B7 PD4, B8 PD3, B9 PD1, B10 PC12, B11 PC10, B12 PA11, C1 PC13, C2 PE5, C3 PE0, C4 VDD, C5 PB5, C8 PD2, C9 PD0, C10 PC11, C11 VDD, C12 PA10, D1 PC14, D2 PE6, D3 VSS, D10 PA9, D11 PA8, D12 PC9, E1 PC15, E2 VLCD, E3 VSS, E10 PC8, E11 PC7, E12 PC6, F1 PH0, F2 PH9, F11 VSS, F12 VSS, G1 PH1, G2 PH10, G11 VDD_USB, G12 VDD, H1 PC0, H2 NRST, H3 VDD, H10 PD15, H11 PD14, H12 PD13, J1 VSSA, J2 PC1, J3 PC2, J10 PD12, J11 PD11, J12 PD10, K1 VREF-, K2 PC3, K3 PA2, K4 PA5, K5 PC4, K8 PD9, K9 PD8, K10 PB15, K11 PB14, K12 PB13, L1 VREF+, L2 PA0, L3 PA3, L4 PA6, L5 PC5, L6 PB2, L7 PE8, L8 PE10, L9 PE12, L10 PB10, L11 PB11, L12 PB12, M1 VDDA, M2 PA1, M3 PA4, M4 PA7, M5 PB0, M6 PB1, M7 PE7, M8 PE9, M9 PE11, M10 PE13, M11 PE14, M12 PE15

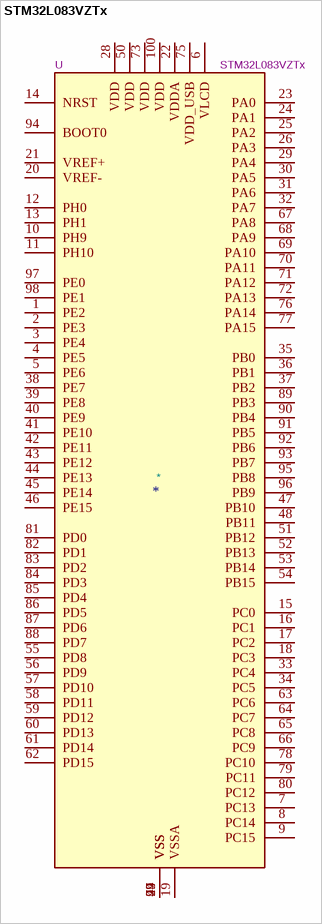
[diagram p22: symbol STM32L083VZTx]

## STM32L083VZTx
designator *  value STM32L083VZTx  Reference: U
STMicroelectronics Arm Cortex-M0+ MCU, 192KB flash, 20KB RAM, 32 MHz, 1.65-3.6V, 84 GPIO, LQFP100; ki_keywords: Arm Cortex-M0+ STM32L0 STM32L0x3; ki_fp_filters: LQFP*14x14mm*P0.5mm*; Footprint: Package_QFP:LQFP-100_14x14mm_P0.5mm; Datasheet: https://www.st.com/resource/en/datasheet/stm32l083vz.pdf; Description_: STMicroelectronics Arm Cortex-M0+ MCU, 192KB flash, 20KB RAM, 32 MHz, 1.65-3.6V, 84 GPIO, LQFP100
pins: 1 PE2, 2 PE3, 3 PE4, 4 PE5, 5 PE6, 6 VLCD, 7 PC13, 8 PC14, 9 PC15, 10 PH9, 11 PH10, 12 PH0, 13 PH1, 14 NRST, 15 PC0, 16 PC1, 17 PC2, 18 PC3, 19 VSSA, 20 VREF-, 21 VREF+, 22 VDDA, 23 PA0, 24 PA1, 25 PA2, 26 PA3, 27 VSS, 28 VDD, 29 PA4, 30 PA5, 31 PA6, 32 PA7, 33 PC4, 34 PC5, 35 PB0, 36 PB1, 37 PB2, 38 PE7, 39 PE8, 40 PE9, 41 PE10, 42 PE11, 43 PE12, 44 PE13, 45 PE14, 46 PE15, 47 PB10, 48 PB11, 49 VSS, 50 VDD, 51 PB12, 52 PB13, 53 PB14, 54 PB15, 55 PD8, 56 PD9, 57 PD10, 58 PD11, 59 PD12, 60 PD13, 61 PD14, 62 PD15, 63 PC6, 64 PC7, 65 PC8, 66 PC9, 67 PA8, 68 PA9, 69 PA10, 70 PA11, 71 PA12, 72 PA13, 73 VDD, 74 VSS, 75 VDD_USB, 76 PA14, 77 PA15, 78 PC10, 79 PC11, 80 PC12, 81 PD0, 82 PD1, 83 PD2, 84 PD3, 85 PD4, 86 PD5, 87 PD6, 88 PD7, 89 PB3, 90 PB4, 91 PB5, 92 PB6, 93 PB7, 94 BOOT0, 95 PB8, 96 PB9, 97 PE0, 98 PE1, 99 VSS, 100 VDD